# Altium schematic symbol library TLE5012BE5000.Schlib: 1 symbol
Pins are listed as number, name and electrical type; pins without a type are passive.

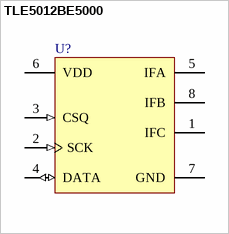
[diagram p0: symbol TLE5012BE5000]

## TLE5012BE5000
designator U?
GMR-Based Angle Sensor
pins: 1 IFC "Interface C: External Clock / IIF Index / Hall Switch Signal 3", 2 SCK (in) "SSC Clock", 3 CSQ (in) "SSC Chip Select", 4 DATA (io) "SSC Data", 5 IFA "Interface A: IIF Phase A / Hall Switch Signal 1 / PWM / SPC output", 6 VDD (power) "Supply Voltage", 7 GND (power) "Ground", 8 IFB "Interface B: IIF Phase B / Hall Switch Signal 2"